# EAGLE library part MOC3041 (library ForceTronics)
MOC 3041 opto isolator: pin 1 is anode, pin 2 is cathode, pin 3 is N/C, pin 4 is MT2, pin 5 is N/C, pin 6 is MT1
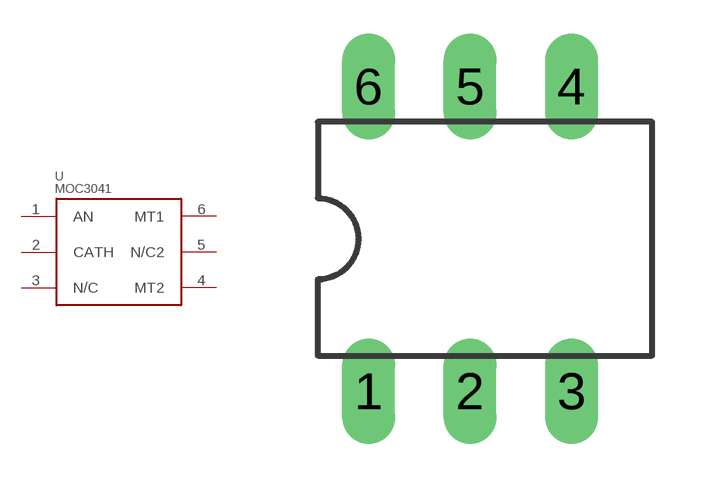
[diagram p5: symbol with the pads of MOC3041; footprint MOC3041]

Designator prefix -

## MOC3041  [MOC3041]
1  AN
2  CATH
3  N/C
4  MT2
5  N/C2
6  MT1

## Footprint MOC3041 (pad centres in mm)
MOC3041 Opto Isolator Through Hole Package
drill 0.813 long: 1 1.26,-0.86; 2 3.8,-0.86; 3 6.34,-0.86; 4 6.34,6.76; 5 3.8,6.76; 6 1.26,6.76